# Altium footprint library resettable fuse.PcbLib: 1 footprints
Each footprint in its own frame and in the unit in brackets; x right, y up, seen from the top. Pads: shape width x height; smd on the part's side, far side on the other; paste and mask are expansions set on the pad; w line width, h text height; cw(c..) or ccw(c..) is an arc to the next point about the centre after c.
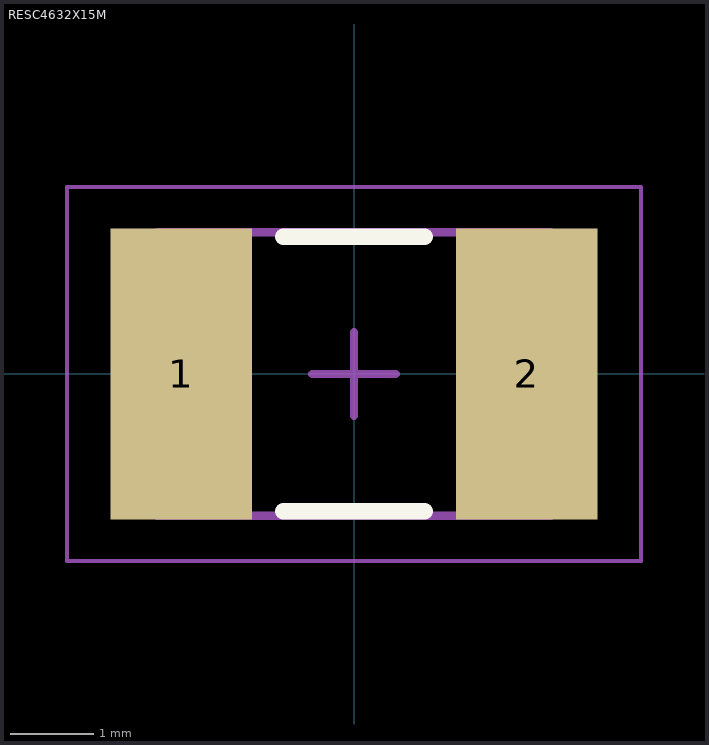
[diagram p0: the footprint, top view; thin cyan lines are the x and y axes]

## RESC4632X15M [mm] "Chip Resistor, 2-Leads, Body 4.55x3.24mm, IPC Low Density"
height 1.46
pads (2):
  rect 1.7x3.5 smd: 1(-2.075,0) 2(2.075,0)
Top Overlay:
  lines w0.2: -0.85,-1.65 0.85,-1.65 ; -0.85,1.65 0.85,1.65
Top Assembly:
  lines w0.1: -2.365,-1.705 2.365,-1.705 2.365,1.705 -2.365,1.705 -2.365,-1.705
Top Courtyard:
  lines w0.05: -3.45,-2.25 3.45,-2.25 3.45,2.25 -3.45,2.25 -3.45,-2.25
  lines w0.1: -0.5,0 0.5,0 ; 0,-0.5 0,0.5
3D body: height 1.46, standoff 0, extent 1.765,-1.705 2.365,1.705
3D body: height 1.46, standoff 0, extent -2.365,-1.705 -1.765,1.705
3D body: height 1.46, standoff 0, extent -1.765,-1.705 1.765,1.705